# Altium schematic symbol library Comparators.SchLib: 2 symbols
Pins are listed as number, name and electrical type; pins without a type are passive.

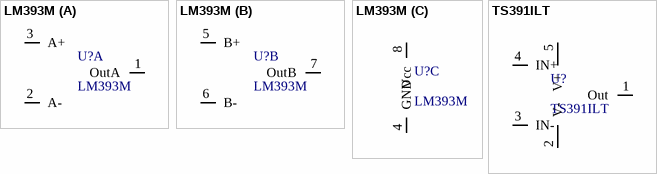
[diagram p0: symbols LM393M to TS391ILT]

## LM393M
designator U?
LM393M Low-power dual voltage comparator
footprint LC-SOIC-8_150mil
part A pins: 1 OutA, 2 A-, 3 A+
part B pins: 5 B+, 6 B-, 7 OutB
part C pins: 4 GND, 8 Vcc

## TS391ILT
designator U?
TS391ILT Low-power single voltage comparator; Vcc_max: +-18 or 36 V; Vin_diff_max: 36 V; Iout_max: 20 mA
footprint LC-SOT-23-5
pins: 1 Out, 2 V-, 3 IN-, 4 IN+, 5 V+